# Altium footprint library P_ChannelZXM61P03FTA.PcbLib: 1 footprints
Each footprint in its own frame and in the unit in brackets; x right, y up, seen from the top. Pads: shape width x height; smd on the part's side, far side on the other; paste and mask are expansions set on the pad; w line width, h text height; cw(c..) or ccw(c..) is an arc to the next point about the centre after c.
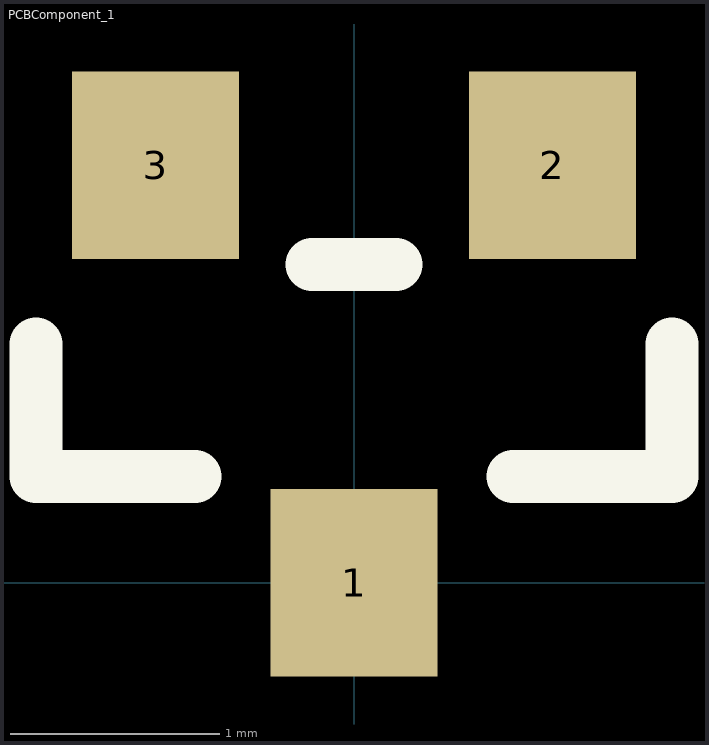
[diagram p0: the footprint, top view; thin cyan lines are the x and y axes]

## PCBComponent_1 [mm]
height 1.1
pads (3):
  rect 0.8x0.9 smd mask+0.2: 1(0,0) 2(0.95,2) 3(-0.95,2)
Top Overlay:
  lines w0.254: -1.524,1.143 -1.524,0.508 -0.762,0.508 ; -0.2,1.524 0.2,1.524 ; 0.762,0.508 1.524,0.508 1.524,1.143